# Altium schematic symbol library SCH - DRIVER - LED - TI TPS92020_D_8.SchLib: 1 symbol
Pins are listed as number, name and electrical type; pins without a type are passive.

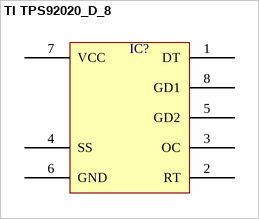
[diagram p0: symbol TI TPS92020_D_8]

## TI TPS92020_D_8
designator IC?  (value not drawn)
pins: 1 DT, 2 RT, 3 OC, 4 SS, 5 GD2, 6 GND, 7 VCC, 8 GD1